# Altium integrated library turck.IntLib: 1 symbol
Pins are listed as number, name and electrical type; pins without a type are passive.

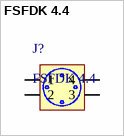
[diagram p0: symbol FSFDK 4.4]

## FSFDK 4.4
designator J?
4 Pin Receptacles, Rear Mount with PCB Pins
footprint FSFDK 4.4
pins: 1, 2, 3, 4